# EAGLE library part PINHEAD_PINHD-2X4 (library CDC_Parts)
PIN HEADER
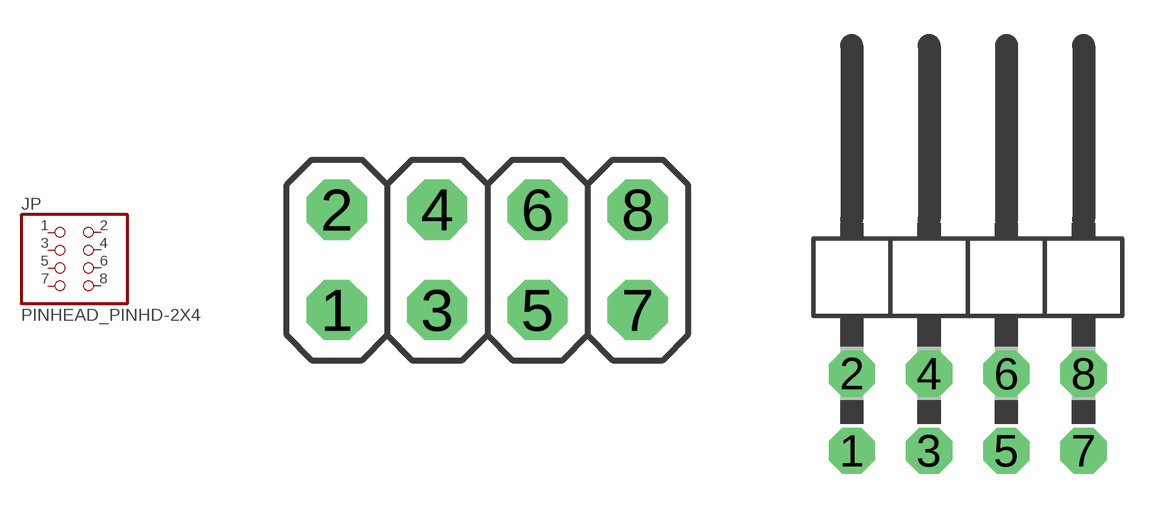
[diagram p2: symbol with the pads of PINHEAD_2X04; footprints PINHEAD_2X04, PINHEAD_2X04/90]

Designator prefix JP

## PINHEAD_PINHD-2X4  [PINHEAD_2X04]
1  1  pas
2  2  pas
3  3  pas
4  4  pas
5  5  pas
6  6  pas
7  7  pas
8  8  pas

## PINHEAD_PINHD-2X4/90  [PINHEAD_2X04/90]
Pads as for PINHEAD_2X04

## Footprint PINHEAD_2X04 (pad centres in mm)
PIN HEADER
drill 1.016 octagon: 1 -3.81,-1.27; 2 -3.81,1.27; 3 -1.27,-1.27; 4 -1.27,1.27; 5 1.27,-1.27; 6 1.27,1.27; 7 3.81,-1.27; 8 3.81,1.27

## Footprint PINHEAD_2X04/90 (pad centres in mm)
PIN HEADER
drill 1.016 octagon: 1 -3.81,-6.35; 2 -3.81,-3.81; 3 -1.27,-6.35; 4 -1.27,-3.81; 5 1.27,-6.35; 6 1.27,-3.81; 7 3.81,-6.35; 8 3.81,-3.81